# EAGLE library part 34R-JMCS-G (library jst-jmc)
0.5mm Pitch SMT Board to Board Connector Source: http://www.jst-mfg.com/product/pdf/jpn/JMC.pdf http://www.jst-mfg.com/product/detail.php?series=147
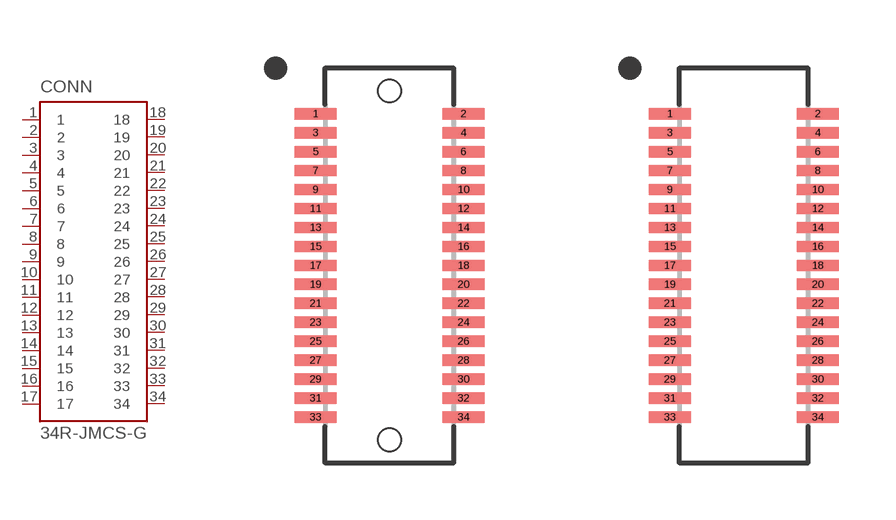
[diagram p16: symbol with the pads of 34R-JMCS-G-B-TF(S); footprints 34R-JMCS-G-B-TF(S), 34R-JMCS-G-TF(S)]

Designator prefix CONN

## 34R-JMCS-G-B-TE(S)  [34R-JMCS-G-B-TF(S)]
1  1
2  2
3  3
4  4
5  5
6  6
7  7
8  8
9  9
10  10
11  11
12  12
13  13
14  14
15  15
16  16
17  17
18  18
19  19
20  20
21  21
22  22
23  23
24  24
25  25
26  26
27  27
28  28
29  29
30  30
31  31
32  32
33  33
34  34

## 34R-JMCS-G-TE(S)  [34R-JMCS-G-TF(S)]
Pads as for 34R-JMCS-G-B-TF(S)

## Footprint 34R-JMCS-G-B-TF(S) (pad centres in mm)
smd 1.1 x 0.3: 1 -1.95,4; 2 1.95,4; 3 -1.95,3.5; 4 1.95,3.5; 5 -1.95,3; 6 1.95,3; 7 -1.95,2.5; 8 1.95,2.5; 9 -1.95,2; 10 1.95,2; 11 -1.95,1.5; 12 1.95,1.5; 13 -1.95,1; 14 1.95,1; 15 -1.95,0.5; 16 1.95,0.5; 17 -1.95,0; 18 1.95,0; 19 -1.95,-0.5; 20 1.95,-0.5; 21 -1.95,-1; 22 1.95,-1; 23 -1.95,-1.5; 24 1.95,-1.5; 25 -1.95,-2; 26 1.95,-2; 27 -1.95,-2.5; 28 1.95,-2.5; 29 -1.95,-3; 30 1.95,-3; 31 -1.95,-3.5; 32 1.95,-3.5; 33 -1.95,-4; 34 1.95,-4
hole 0.6 at 0,4.6
hole 0.6 at 0,-4.6

## Footprint 34R-JMCS-G-TF(S) (pad centres in mm)
smd 1.1 x 0.3: 1 -1.95,4; 2 1.95,4; 3 -1.95,3.5; 4 1.95,3.5; 5 -1.95,3; 6 1.95,3; 7 -1.95,2.5; 8 1.95,2.5; 9 -1.95,2; 10 1.95,2; 11 -1.95,1.5; 12 1.95,1.5; 13 -1.95,1; 14 1.95,1; 15 -1.95,0.5; 16 1.95,0.5; 17 -1.95,0; 18 1.95,0; 19 -1.95,-0.5; 20 1.95,-0.5; 21 -1.95,-1; 22 1.95,-1; 23 -1.95,-1.5; 24 1.95,-1.5; 25 -1.95,-2; 26 1.95,-2; 27 -1.95,-2.5; 28 1.95,-2.5; 29 -1.95,-3; 30 1.95,-3; 31 -1.95,-3.5; 32 1.95,-3.5; 33 -1.95,-4; 34 1.95,-4